# Altium footprint library Summits7Beta_LIB_PCB.PcbLib: 3 footprints
Each footprint in its own frame and in the unit in brackets; x right, y up, seen from the top. Pads: shape width x height; smd on the part's side, far side on the other; paste and mask are expansions set on the pad; w line width, h text height; cw(c..) or ccw(c..) is an arc to the next point about the centre after c.
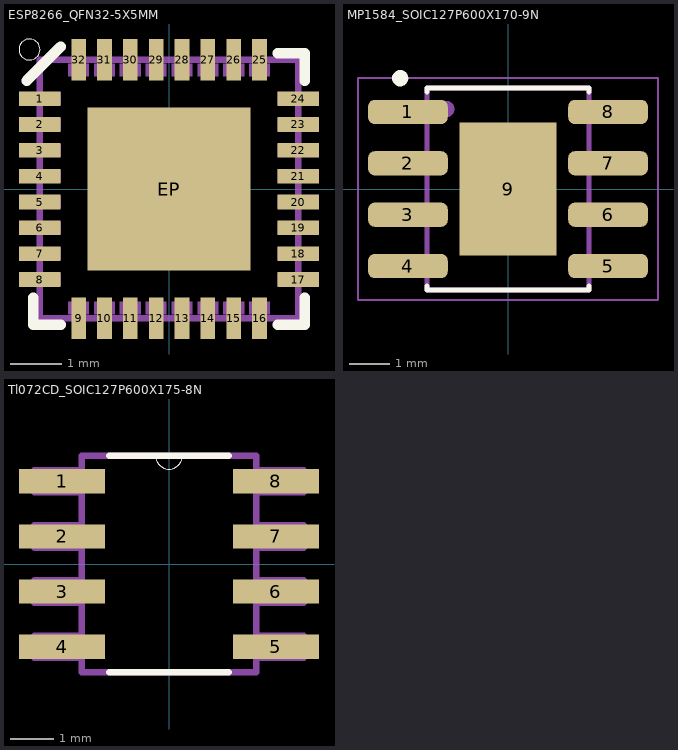
[diagram p0: the footprints below, top view; thin cyan lines are the x and y axes]

## ESP8266_QFN32-5X5MM [mm] "Footprint del ESP8266EX"
pads (33):
  rect 0.8x0.285 smd: 1(-2.5,1.75) 2(-2.5,1.25) 3(-2.5,0.75) 4(-2.5,0.25) 5(-2.5,-0.25) 6(-2.5,-0.75) 7(-2.5,-1.25) 8(-2.5,-1.75) 17(2.5,-1.75) 18(2.5,-1.25) 19(2.5,-0.75) 20(2.5,-0.25) 21(2.5,0.25) 22(2.5,0.75) 23(2.5,1.25) 24(2.5,1.75)
  rect 0.285x0.8 smd: 9(-1.75,-2.5) 10(-1.25,-2.5) 11(-0.75,-2.5) 12(-0.25,-2.5) 13(0.25,-2.5) 14(0.75,-2.5) 15(1.25,-2.5) 16(1.75,-2.5) 25(1.75,2.5) 26(1.25,2.5) 27(0.75,2.5) 28(0.25,2.5) 29(-0.25,2.5) 30(-0.75,2.5) 31(-1.25,2.5) 32(-1.75,2.5)
  rect 3.15x3.15 smd paste-3: EP(0,0)
Top Overlay:
  circle w0: c-2.7,2.7 r0.203
  lines w0.203: -2.754,2.1 -2.1,2.754 ; -2.627,-2.1 -2.627,-2.627 -2.1,-2.627 ; 2.1,-2.627 2.627,-2.627 2.627,-2.1 ; 2.1,2.627 2.627,2.627 2.627,2.1
Top Paste:
  region: -0.15,0.15 -1.45,0.15 -1.45,1.45 -0.15,1.45
  region: 1.45,0.15 0.15,0.15 0.15,1.45 1.45,1.45
  region: -0.15,-1.45 -1.45,-1.45 -1.45,-0.15 -0.15,-0.15
  region: 1.45,-1.45 0.15,-1.45 0.15,-0.15 1.45,-0.15
Mechanical 13:
  region: 0.45,2.18 0.05,2.18 0.05,2.42 0.45,2.42
  region: -0.05,2.18 -0.45,2.18 -0.45,2.42 -0.05,2.42
  region: -0.55,2.18 -0.95,2.18 -0.95,2.42 -0.55,2.42
  region: -1.05,2.18 -1.45,2.18 -1.45,2.42 -1.05,2.42
  region: -1.55,2.18 -1.95,2.18 -1.95,2.42 -1.55,2.42
  region: 0.95,2.18 0.55,2.18 0.55,2.42 0.95,2.42
  region: 1.45,2.18 1.05,2.18 1.05,2.42 1.45,2.42
  region: 1.95,2.18 1.55,2.18 1.55,2.42 1.95,2.42
  region: 2.5,-0.37 2.1,-0.37 2.1,-0.13 2.5,-0.13
  region: 2.5,0.13 2.1,0.13 2.1,0.37 2.5,0.37
  region: 2.5,0.63 2.1,0.63 2.1,0.87 2.5,0.87
  region: 2.5,1.13 2.1,1.13 2.1,1.37 2.5,1.37
  region: 2.5,1.63 2.1,1.63 2.1,1.87 2.5,1.87
  region: 2.5,-0.87 2.1,-0.87 2.1,-0.63 2.5,-0.63
  region: 2.5,-1.37 2.1,-1.37 2.1,-1.13 2.5,-1.13
  region: 2.5,-1.87 2.1,-1.87 2.1,-1.63 2.5,-1.63
  region: -2.1,0.13 -2.5,0.13 -2.5,0.37 -2.1,0.37
  region: -2.1,-0.37 -2.5,-0.37 -2.5,-0.13 -2.1,-0.13
  region: -2.1,-0.87 -2.5,-0.87 -2.5,-0.63 -2.1,-0.63
  region: -2.1,-1.37 -2.5,-1.37 -2.5,-1.13 -2.1,-1.13
  region: -2.1,-1.87 -2.5,-1.87 -2.5,-1.63 -2.1,-1.63
  region: -2.1,0.63 -2.5,0.63 -2.5,0.87 -2.1,0.87
  region: -2.1,1.13 -2.5,1.13 -2.5,1.37 -2.1,1.37
  region: -2.1,1.63 -2.5,1.63 -2.5,1.87 -2.1,1.87
  region: -0.05,-2.42 -0.45,-2.42 -0.45,-2.18 -0.05,-2.18
  region: 0.45,-2.42 0.05,-2.42 0.05,-2.18 0.45,-2.18
  region: 0.95,-2.42 0.55,-2.42 0.55,-2.18 0.95,-2.18
  region: 1.45,-2.42 1.05,-2.42 1.05,-2.18 1.45,-2.18
  region: 1.95,-2.42 1.55,-2.42 1.55,-2.18 1.95,-2.18
  region: -0.55,-2.42 -0.95,-2.42 -0.95,-2.18 -0.55,-2.18
  region: -1.05,-2.42 -1.45,-2.42 -1.45,-2.18 -1.05,-2.18
  region: -1.55,-2.42 -1.95,-2.42 -1.95,-2.18 -1.55,-2.18
  lines w0.127: -2.5,-2.5 -2.5,2.5 2.5,2.5 2.5,-2.5 -2.5,-2.5

## MP1584_SOIC127P600X170-9N [mm]
pads (9):
  rrect54% 1.97x0.6 smd: 1(-2.475,1.905) 2(-2.475,0.635) 3(-2.475,-0.635) 4(-2.475,-1.905) 5(2.475,-1.905) 6(2.475,-0.635) 7(2.475,0.635) 8(2.475,1.905)
  rect 2.41x3.3 smd paste-3: 9(0,0)
Top Overlay:
  circle w0.2: c-2.667,2.74 r0.1
  lines w0.127: -2,-2.4 -2,-2.5 2,-2.5 2,-2.4 ; -2,2.4 -2,2.5 2,2.5 2,2.4
Top Paste:
  region: 0.935,0.135 0.135,0.135 0.135,1.375 0.935,1.375
  region: 0.935,-1.377 0.135,-1.377 0.135,-0.135 0.935,-0.135
  region: -0.135,-1.378 -0.937,-1.378 -0.937,-0.135 -0.135,-0.135
  region: -0.135,0.135 -0.937,0.135 -0.937,1.375 -0.135,1.375
Mechanical 13:
  circle w0.2: c-1.524,1.978 r0.1
  lines w0.127: -2,-2.5 2,-2.5 2,2.5 -2,2.5 -2,-2.5
Mechanical 15:
  lines w0.05: -3.71,-2.75 3.71,-2.75 3.71,2.75 -3.71,2.75 -3.71,-2.75

## Tl072CD_SOIC127P600X175-8N [mil]
pads (8):
  rect 78x22 smd: 1(-97,75) 2(-97,25) 3(-97,-25) 4(-97,-75) 5(97,-75) 6(97,-25) 7(97,25) 8(97,75)
Top Overlay:
  lines w0: -12,98 ccw(c0,98) 12,98
  lines w6: -54,-98 54,-98 ; -54,98 -12,98 12,98 54,98
Mechanical 13:
  lines w0: -12,98 ccw(c0,98) 12,98
  lines w6: -122,-85 -122,-65 -79,-65 -79,-85 -122,-85 ; -122,-35 -122,-15 -79,-15 -79,-35 -122,-35 ; -122,15 -122,35 -79,35 -79,15 -122,15 ; -122,65 -122,85 -79,85 -79,65 -122,65 ; -79,-98 79,-98 79,98 12,98 -12,98 -79,98 -79,-98 ; 79,-85 79,-65 122,-65 122,-85 79,-85 ; 79,-35 79,-15 122,-15 122,-35 79,-35 ; 79,15 79,35 122,35 122,15 79,15 ; 79,65 79,85 122,85 122,65 79,65